# Altium footprint library 开关封装库.PcbLib: 25 footprints (part 1 of 2)
Each footprint in its own frame and in the unit in brackets; x right, y up, seen from the top. Pads: shape width x height; smd on the part's side, far side on the other; paste and mask are expansions set on the pad; w line width, h text height; cw(c..) or ccw(c..) is an arc to the next point about the centre after c.
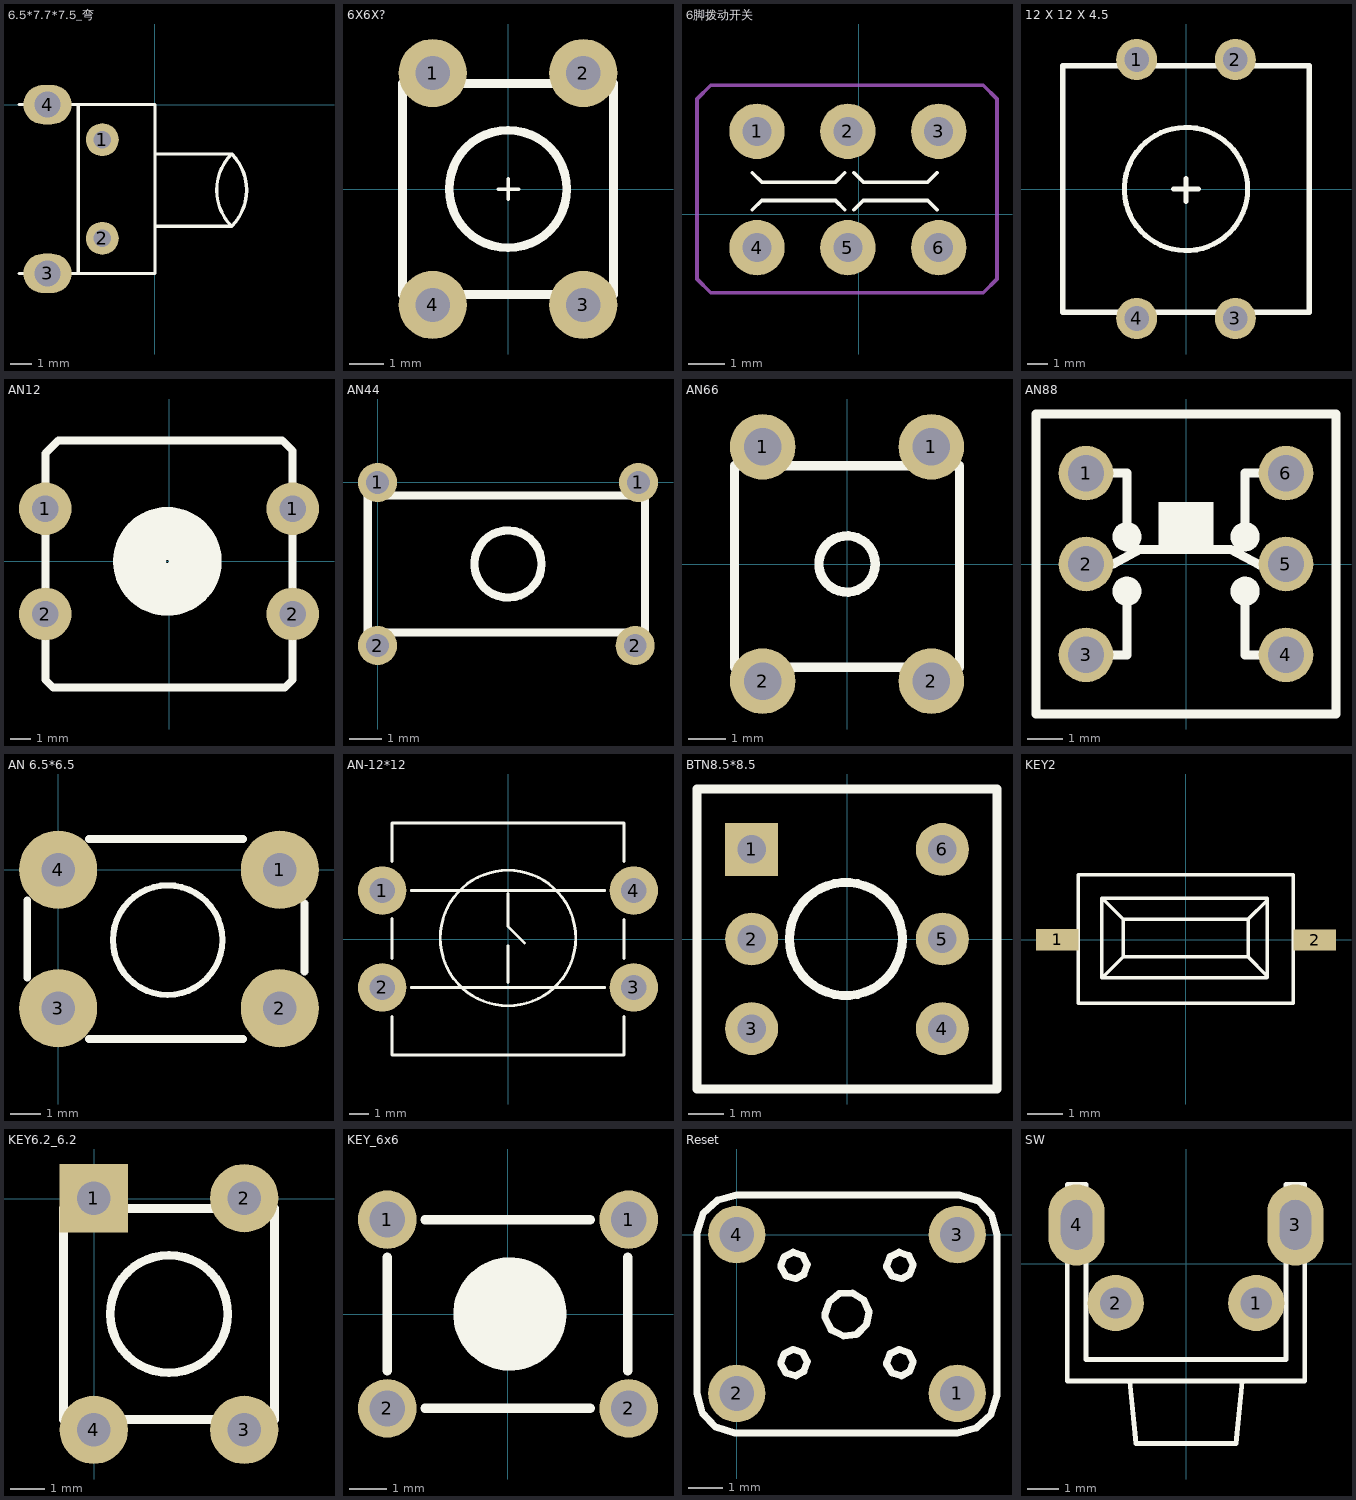
[diagram p0: the footprints below, top view; thin cyan lines are the x and y axes]

## 6.5*7.7*7.5_弯 [mm]
pads (4):
  round 1.5 hole 0.8: 1(-2.4,-1.6) 2(-2.4,-6.1)
  oval 2.2x1.8 hole 1.2: 3(-4.9,-7.7) 4(-4.9,0)
Top Overlay:
  lines w0.15: -6.2,-7.7 0,-7.7 0,0 -6.2,0 ; -3.5,-7.7 -3.5,0 ; 0,-5.55 3.5,-5.55 ; 0,-2.25 3.5,-2.25 ; 3.5,-5.55 ccw(c1.85,-3.9) 3.5,-2.25 ; 3.5,-5.55 cw(c5.15,-3.9) 3.5,-2.25

## 6X6X? [mm]
pads (4):
  round 2 hole 1: 1(-2.22,3.407) 2(2.2,3.407) 3(2.2,-3.4) 4(-2.22,-3.4)
Top Overlay:
  circle w0.254: c-0.01,0.004 r1.727
  lines w0.1: -0.3,0 0.3,0 ; 0,-0.3 0,0.3
  lines w0.254: -3.109,-3.095 -3.109,3.102 3.089,3.102 3.089,-3.095 -3.109,-3.095

## 6脚拨动开关 [mil]
pads (6):
  round 60 hole 31.5: 1(-110,90) 2(-11.57,90) 3(86.85,90) 4(-110,-35.98) 5(-11.57,-35.98) 6(86.85,-35.98)
Top Overlay:
  lines w3.94: -115,5 -105,15 -25,15 -15,5 ; -115,45 -105,35 -25,35 -15,45 ; -5,5 5,15 75,15 85,5 ; -5,45 5,35 75,35 85,45
Mechanical 1:
  lines w3.94: -175,-70 -160,-85 135,-85 150,-70 150,125 135,140 -160,140 -175,125 -175,-70

## 12 X 12 X 4.5 [mm]
pads (4):
  round 2 hole 1.2: 1(-2.4,6.3) 2(2.4,6.3) 3(2.4,-6.3) 4(-2.4,-6.3)
Top Overlay:
  circle w0.25: c0,0 r3
  lines w0.25: -0.6,0 0.6,0 ; 0,-0.6 0,0.5 ; -6,-6 -6,6 6,6 6,-6 -6,-6

## AN12 [mil]
pads (4):
  round 100 hole 50: 1(-235,100) 1(235,100) 2(-235,-100) 2(235,-100)
Top Overlay:
  circle w100: c-3.15,0 r53.15
  lines w15: -235,-225 -235,205 -210,230 215,230 235,210 235,-225 220,-240 -220,-240 -235,-225

## AN44 [mm]
pads (4):
  round 1.2 hole 0.7: 1(0,0) 1(8,0) 2(0,-5) 2(7.9,-5)
Top Overlay:
  circle w0.254: c4,-2.5 r1.03
  lines w0.254: -0.3,-4.6 8.2,-4.6 8.2,-0.4 -0.3,-0.4 -0.3,-4.6

## AN66 [mil]
pads (4):
  round 70 hole 40: 1(-90,125) 1(90,125) 2(-90,-125) 2(90,-125)
Top Overlay:
  circle w10: c0,0 r30
  lines w10: -120,-110 120,-110 120,105 -120,105 -120,-110

## AN88 [mil]
pads (6):
  round 60 hole 40: 1(-110,100) 2(-110,0) 3(-110,-100) 4(110,-100) 5(110,0) 6(110,100)
Top Overlay:
  circle w18: c-65,-30 r7.07
  circle w18: c65,-30 r7.07
  circle w18: c65,30 r7.07
  circle w18: c-65,30 r7.07
  rectangle: -30,16 30,68
  lines w10: -110,-100 -65,-100 -65,-40 ; -110,0 -80,0 -51,16 49,16 81,-1 109,-1 110,0 ; -110,100 -65,100 -65,30 ; 65,-40 65,-100 110,-100 ; 65,40 65,100 110,100 ; -165,-165 165,-165 165,165 -165,165 -165,-165

## AN 6.5*6.5 [mil]
pads (4):
  round 100 hole 43: 1(283.46,0) 2(283.46,-177.17) 3(0,-177.17) 4(0,0)
Top Overlay:
  circle w7.87: c140,-90 r70
  lines w10: -39.37,-137.8 -39.37,-39.37 ; 39.37,-216.54 236.22,-216.54 ; 39.37,39.37 236.22,39.37 ; 314.96,-129.92 314.96,-43.31

## AN-12*12 [mm]
pads (4):
  round 2.5 hole 1.3: 1(-6.5,2.5) 2(-6.5,-2.5) 3(6.5,-2.5) 4(6.5,2.5)
Top Overlay:
  circle w0.15: c0,0.05 r3.5
  lines w0.15: -6,-4 -6,-6 6,-6 6,-4 ; -6,-1 -6,1.05 ; -6,4 -6,6 6,6 6,4 ; -5,-2.5 5,-2.5 ; -5,2.5 5,2.5 ; 0,-2.25 0,-0.35 ; 0,2.35 0,0.65 0.85,-0.2 ; 6,-1 6,1

## BTN8.5*8.5 [mm]
pads (6):
  rect 1.5x1.5 hole 0.8: 1(-2.7,2.54)
  round 1.5 hole 0.8: 2(-2.7,0) 3(-2.7,-2.54) 4(2.7,-2.54) 5(2.7,0) 6(2.7,2.54)
Top Overlay:
  circle w0.254: c-0.033,0 r1.6
  lines w0.254: -4.25,-4.25 -4.25,4.25 4.25,4.25 4.25,-4.25 -4.25,-4.25
3D body: height 10, standoff -1.9, extent -2.89,-2.83 2.91,2.97

## KEY2 [mm] "body:3.6x8mm,2PIN,8.2MM"
pads (2):
  rect 1.2x0.6 smd: 1(-3.63,0.005) 2(3.63,-0.005)
Top Overlay:
  lines w0.1: 1.72,-0.48 -1.77,-0.48 ; -2.37,-1.07 -2.36,-1.07 -1.77,-0.48 ; -2.37,-1.07 2.28,-1.07 ; -2.37,-1.07 -2.37,1.17 ; -2.37,1.17 -2.36,1.17 -1.77,0.58 ; -2.37,1.17 2.29,1.17 ; -1.77,-0.48 1.75,-0.48 ; -1.77,-0.48 -1.77,0.58 ; -1.77,0.58 1.75,0.58 ; 1.75,-0.48 2.28,-1.01 2.28,-1.07 ; 1.75,-0.48 1.75,0.58 ; 1.75,0.58 2.29,1.12 2.29,1.17 ; 2.28,-1.07 2.29,-1.06 2.29,1.17 ; -3.04,-1.785 3.02,-1.785 3.02,1.835 -3.04,1.835 -3.04,-1.785

## KEY6.2_6.2 [mil]
pads (4):
  rect 79x79 hole 39: 1(-0.52,0.41)
  round 79 hole 39: 2(173.48,0.41) 3(173.48,-267.59) 4(-0.52,-267.59)
Top Overlay:
  circle w10: c86.48,-133.59 r68
  lines w10: -35.52,-255.59 208.48,-255.59 208.48,-11.59 -35.52,-11.59 -35.52,-255.59

## KEY_6x6 [mil]
pads (4):
  round 62 hole 38: 1(-127.95,100) 1(127.95,100) 2(-127.95,-100) 2(127.95,-100)
Top Overlay:
  circle w60: c2.05,0 r30
  lines w10: -127.98,-60 -127.98,60 ; -87.98,-100 87.05,-100 ; -87.98,100 87.05,100 ; 127.05,-60 127.05,60
3D body: height 196.85, standoff -78.74, extent -131.69,-123.22 126.18,120.87

## Reset [mil]
pads (4):
  round 65 hole 39.37: 1(250,-180) 2(0,-180) 3(250,0) 4(0,0)
Top Overlay:
  lines w8: -45,-180 -39,-202 -24,-218 -2,-225 0,-225 250,-225 272,-219 288,-204 295,-182 295,-180 295,0 289,22 274,38 252,45 250,45 0,45 -22,39 -38,24 -45,2 -45,0 -45,-180 ; 50,-147 56,-157 67,-160 76,-155 80,-144 75,-134 64,-130 54,-135 50,-145 50,-147 ; 50,-37 56,-47 67,-50 76,-45 80,-34 75,-24 64,-20 54,-25 50,-35 50,-37 ; 100,-94 107,-108 121,-115 136,-113 147,-102 150,-88 144,-74 131,-66 116,-67 105,-76 100,-90 100,-94 ; 170,-147 176,-157 187,-160 196,-155 200,-144 195,-134 184,-130 174,-135 170,-145 170,-147 ; 170,-37 176,-47 187,-50 196,-45 200,-34 195,-24 184,-20 174,-25 170,-35 170,-37

## SW [mm]
pads (4):
  round 1.8 hole 1: 1(2.25,-1.25) 2(-2.25,-1.25)
  oval 1.8x2.6 hole 1 slot 1.6 at 90 deg: 3(3.5,1.25) 4(-3.5,1.25)
Top Overlay:
  lines w0.16: -3.8,-0.25 -3.8,-3.75 ; -1.8,-3.75 -1.6,-5.75 1.6,-5.75 1.8,-3.75 ; -3.8,-3.75 3.8,-3.75 3.8,2.55 3.2,2.55 3.2,-3.05 -3.2,-3.05 -3.2,2.55 -3.8,2.55 -3.8,-3.75